# Altium footprint library Relay_THT.PcbLib: 78 footprints (part 5 of 5)
Each footprint in its own frame and in the unit in brackets; x right, y up, seen from the top. Pads: shape width x height; smd on the part's side, far side on the other; paste and mask are expansions set on the pad; w line width, h text height; cw(c..) or ccw(c..) is an arc to the next point about the centre after c.
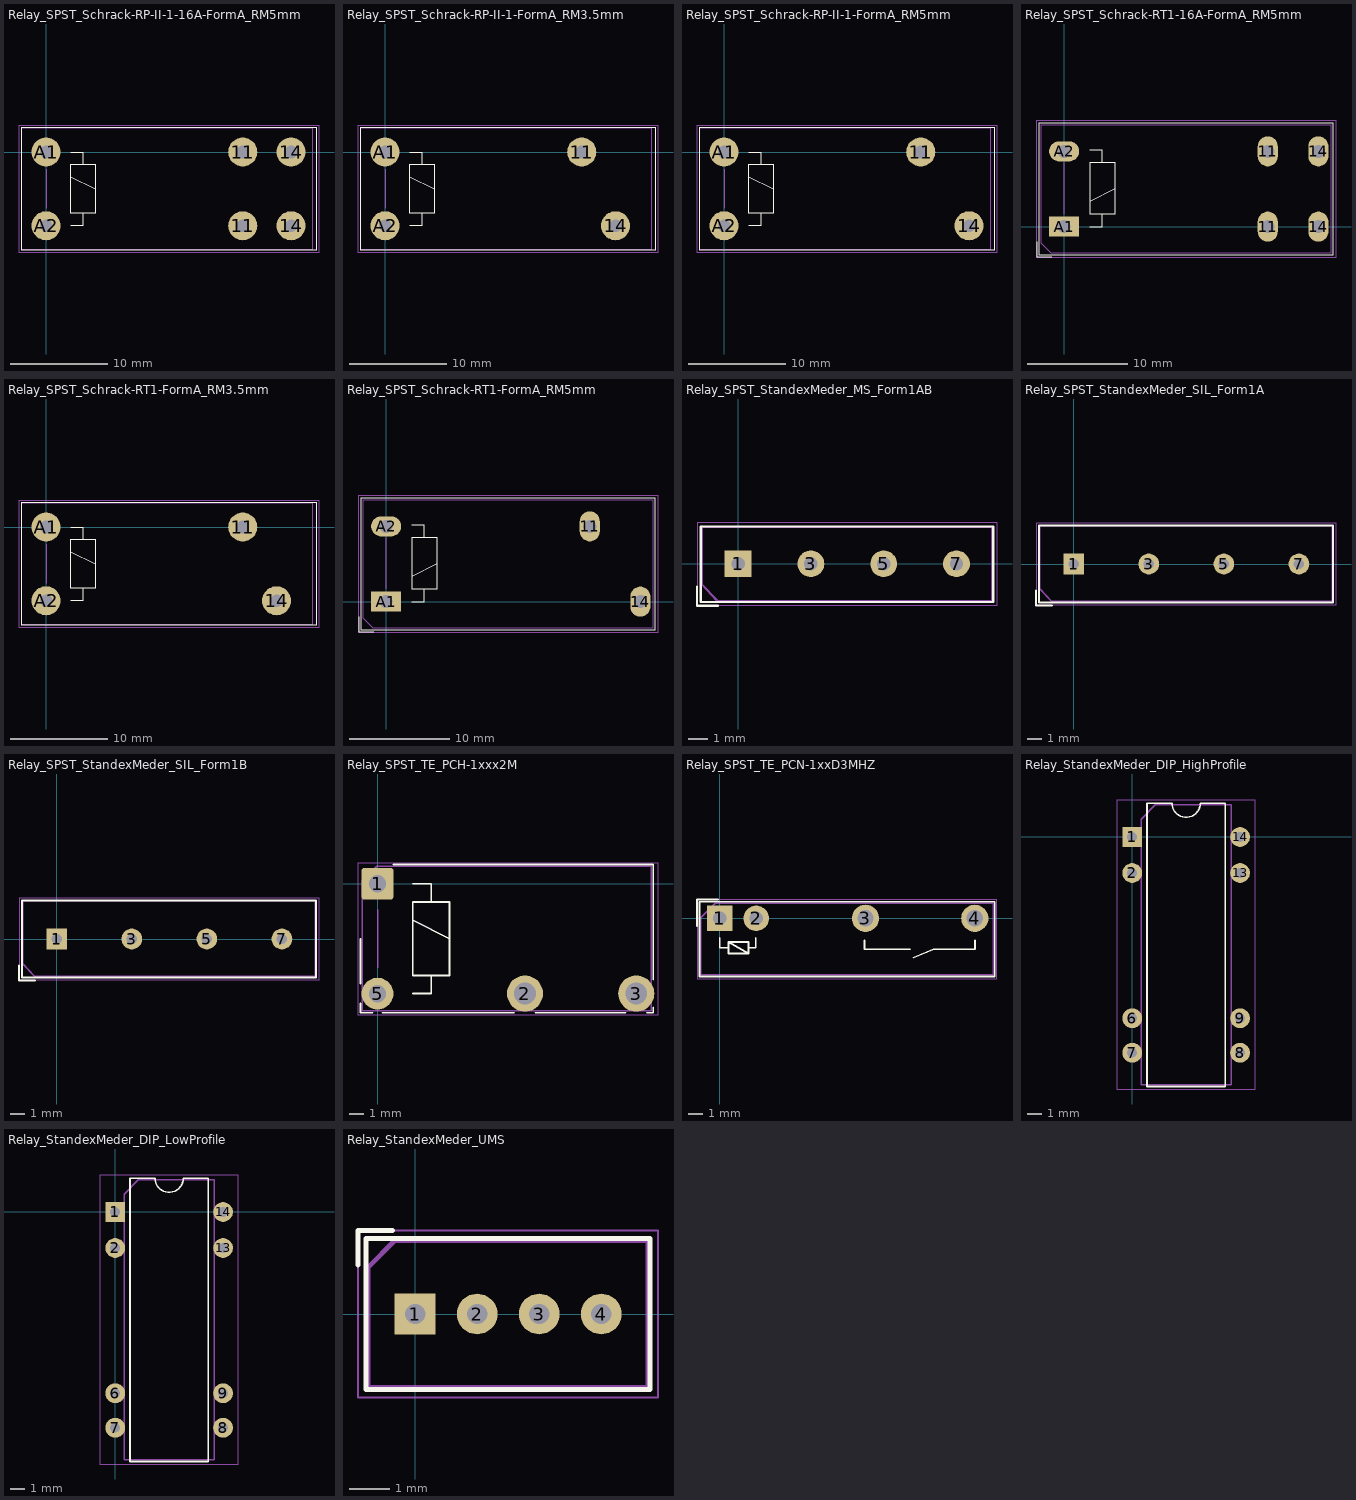
[diagram p4: the footprints below, top view; thin cyan lines are the x and y axes]

## Relay_SPST_Schrack-RP-II-1-16A-FormA_RM5mm [mm]
pads (6):
  round 3 hole 1.3: 11(20.32,-7.62) 11(20.32,0) 14(25.32,-7.62) 14(25.32,0) A1(0,0) A2(0,-7.62)
F.SilkS:
  lines w0.12: 2.54,-7.62 3.81,-7.62 3.81,-6.35 ; 2.54,-2.54 5.08,-3.81 ; 2.54,0 3.81,0 3.81,-1.27 ; 3.81,-1.27 5.08,-1.27 5.08,-6.35 2.54,-6.35 2.54,-1.27 3.81,-1.27 ; -2.54,-10.16 -2.54,2.54 27.94,2.54 27.94,-10.16 -2.54,-10.16
F.CrtYd:
  lines w0.05: -2.8,-10.42 28.2,-10.42 28.2,2.78 -2.8,2.78 -2.8,-10.42
F.Fab:
  lines w0.12: 0,-5.8 0,-1.8 ; -2.5,-10.1 -2.5,2.5 27.5,2.5 27.5,-10.1 -2.5,-10.1
  text "'.Designator'" at 8.018,-4.65 h1

## Relay_SPST_Schrack-RP-II-1-FormA_RM3.5mm [mm]
pads (4):
  round 3 hole 1.3: 11(20.32,0) 14(23.82,-7.62) A1(0,0) A2(0,-7.62)
F.SilkS:
  lines w0.12: 2.54,-7.62 3.81,-7.62 3.81,-6.35 ; 2.54,-2.54 5.08,-3.81 ; 2.54,0 3.81,0 3.81,-1.27 ; 3.81,-1.27 2.54,-1.27 2.54,-6.35 5.08,-6.35 5.08,-1.27 3.81,-1.27 ; -2.54,-10.16 27.94,-10.16 27.94,2.54 -2.54,2.54 -2.54,-10.16
F.CrtYd:
  lines w0.05: -2.8,-10.42 28.2,-10.42 28.2,2.78 -2.8,2.78 -2.8,-10.42
F.Fab:
  lines w0.12: 0,-5.8 0,-1.8 ; -2.5,-10.1 -2.5,2.5 27.5,2.5 27.5,-10.1 -2.5,-10.1
  text "'.Designator'" at 8.018,-4.65 h1

## Relay_SPST_Schrack-RP-II-1-FormA_RM5mm [mm]
pads (4):
  round 3 hole 1.3: 11(20.32,0) 14(25.32,-7.62) A1(0,0) A2(0,-7.62)
F.SilkS:
  lines w0.12: 2.54,-7.62 3.81,-7.62 3.81,-6.35 ; 2.54,-2.54 5.08,-3.81 ; 2.54,0 3.81,0 3.81,-1.27 ; 3.81,-1.27 2.54,-1.27 2.54,-6.35 5.08,-6.35 5.08,-1.27 3.81,-1.27 ; -2.54,-10.16 27.94,-10.16 27.94,2.54 -2.54,2.54 -2.54,-10.16
F.CrtYd:
  lines w0.05: -2.8,-10.42 28.2,-10.42 28.2,2.78 -2.8,2.78 -2.8,-10.42
F.Fab:
  lines w0.12: 0,-5.8 0,-1.8 ; -2.5,-10.1 -2.5,2.5 27.5,2.5 27.5,-10.1 -2.5,-10.1
  text "'.Designator'" at 8.018,-4.65 h1

## Relay_SPST_Schrack-RT1-16A-FormA_RM5mm [mm]
pads (6):
  rrect100% 2x3 hole 1.3: 11(20.3,0) 11(20.3,7.5) 14(25.34,0) 14(25.34,7.5)
  rect 3x2 hole 1.3: A1(0,0)
  rrect100% 3x2 hole 1.3: A2(0,7.5)
F.SilkS:
  lines w0.1: 2.54,2.54 5.08,3.81
  lines w0.12: -2.75,-1.5 -2.75,-3 -1.25,-3 ; 2.54,0 3.81,0 3.81,1.27 ; 2.54,7.62 3.81,7.62 3.81,6.35 ; 3.81,1.27 2.54,1.27 2.54,6.35 5.08,6.35 5.08,1.27 3.81,1.27 ; -2.55,-2.8 -2.55,10.3 26.85,10.3 26.85,-2.8 -2.55,-2.8
F.CrtYd:
  lines w0.05: -2.8,-3.05 27.1,-3.05 27.1,10.55 -2.8,10.55 -2.8,-3.05
F.Fab:
  lines w0.1: -2.35,-1.6 -2.35,10.1 26.65,10.1 26.65,-2.6 -1.35,-2.6 -2.35,-1.6
  lines w0.12: 0,1.27 0,6.35
  text "'.Designator'" at 8.018,2.97 h1

## Relay_SPST_Schrack-RT1-FormA_RM3.5mm [mm]
pads (4):
  round 3 hole 1.3: 11(20.32,0) 14(23.82,-7.62) A1(0,0) A2(0,-7.62)
F.SilkS:
  lines w0.12: 2.54,-7.62 3.81,-7.62 3.81,-6.35 ; 2.54,-2.54 5.08,-3.81 ; 2.54,0 3.81,0 3.81,-1.27 ; 3.81,-1.27 5.08,-1.27 5.08,-6.35 2.54,-6.35 2.54,-1.27 3.81,-1.27 ; -2.54,-10.16 27.94,-10.16 27.94,2.54 -2.54,2.54 -2.54,-10.16
F.CrtYd:
  lines w0.05: -2.8,-10.42 -2.8,2.78 28.2,2.78 28.2,-10.42 -2.8,-10.42
F.Fab:
  lines w0.12: 0,-5.8 0,-1.8 ; -2.5,-10.1 27.5,-10.1 27.5,2.5 -2.5,2.5 -2.5,-10.1
  text "'.Designator'" at 8.018,-4.65 h1

## Relay_SPST_Schrack-RT1-FormA_RM5mm [mm]
pads (4):
  rrect100% 2x3 hole 1.3: 11(20.3,7.5) 14(25.34,0)
  rect 3x2 hole 1.3: A1(0,0)
  rrect100% 3x2 hole 1.3: A2(0,7.5)
F.SilkS:
  lines w0.1: 2.54,2.54 5.08,3.81
  lines w0.12: -2.75,-1.5 -2.75,-3 -1.25,-3 ; 2.54,0 3.81,0 3.81,1.27 ; 2.54,7.62 3.81,7.62 3.81,6.35 ; 3.81,1.27 5.08,1.27 5.08,6.35 2.54,6.35 2.54,1.27 3.81,1.27 ; -2.55,-2.8 26.85,-2.8 26.85,10.3 -2.55,10.3 -2.55,-2.8
F.CrtYd:
  lines w0.05: -2.8,-3.05 -2.8,10.55 27.1,10.55 27.1,-3.05 -2.8,-3.05
F.Fab:
  lines w0.1: -2.35,-1.6 -1.35,-2.6 26.65,-2.6 26.65,10.1 -2.35,10.1 -2.35,-1.6
  lines w0.12: 0,1.27 0,6.35
  text "'.Designator'" at 8.018,2.97 h1

## Relay_SPST_StandexMeder_MS_Form1AB [mm]
pads (4):
  rect 1.4x1.4 hole 0.7: 1(0,0)
  round 1.4 hole 0.7: 3(3.81,0) 5(7.62,0) 7(11.43,0)
F.SilkS:
  lines w0.12: -2.15,-1.2 -2.15,-2.2 -1.05,-2.2 ; -1.95,-2 13.35,-2 13.35,1.95 -1.95,1.95 -1.95,-2
F.CrtYd:
  lines w0.05: -2.15,-2.2 13.55,-2.2 13.55,2.18 -2.15,2.18 -2.15,-2.2
F.Fab:
  lines w0.12: -1.9,1.9 -1.9,-1.067 -1.1,-1.917 13.3,-1.95 13.3,1.9 -1.9,1.933
  text "'.Designator'" at 1.653,-0.84 h1

## Relay_SPST_StandexMeder_SIL_Form1A [mm]
pads (4):
  rect 1.4x1.4 hole 0.7: 1(0,0)
  round 1.4 hole 0.7: 3(5.08,0) 5(10.16,0) 7(15.24,0)
F.SilkS:
  lines w0.12: -2.55,-1.8 -2.55,-2.8 -1.45,-2.8 ; -2.35,-2.6 17.55,-2.6 17.55,2.6 -2.35,2.6 -2.35,-2.6
F.CrtYd:
  lines w0.05: -2.55,-2.8 17.75,-2.8 17.75,2.8 -2.55,2.8 -2.55,-2.8
F.Fab:
  lines w0.12: -2.3,-1.667 -1.5,-2.517 17.5,-2.517 17.5,2.583 -2.3,2.583 -2.3,-1.667
  text "'.Designator'" at 3.703,-0.84 h1

## Relay_SPST_StandexMeder_SIL_Form1B [mm]
pads (4):
  rect 1.4x1.4 hole 0.7: 1(0,0)
  round 1.4 hole 0.7: 3(5.08,0) 5(10.16,0) 7(15.24,0)
F.SilkS:
  lines w0.12: -2.55,-1.8 -2.55,-2.8 -1.45,-2.8 ; -2.35,-2.6 -2.35,2.6 17.55,2.6 17.55,-2.6 -2.35,-2.6
F.CrtYd:
  lines w0.05: -2.55,-2.8 17.75,-2.8 17.75,2.8 -2.55,2.8 -2.55,-2.8
F.Fab:
  lines w0.12: -2.3,-1.667 -1.5,-2.517 17.5,-2.517 17.5,2.583 -2.3,2.583 -2.3,-1.667
  text "'.Designator'" at 3.703,-0.84 h1

## Relay_SPST_TE_PCH-1xxx2M [mm]
pads (4):
  rrect16% 2.2x2.2 hole 1.2: 1(0,0)
  round 2.5 hole 1.5: 2(10.2,-7.6) 3(17.9,-7.6)
  round 2.2 hole 1.2: 5(0,-7.6)
F.SilkS:
  lines w0.12: -1.17,-8.29 -1.17,-8.92 -0.33,-8.92 ; -1.17,-6.9 -1.17,-3.8 ; 0.33,-8.92 9.46,-8.92 ; 1.11,1.32 19.07,1.32 19.07,-6.64 ; 2.44,-7.6 3.71,-7.6 3.71,-6.35 ; 2.44,-2.54 4.98,-3.81 ; 2.44,0 3.71,0 3.71,-1.27 ; 10.93,-8.92 17.16,-8.92 ; 18.63,-8.92 19.07,-8.92 19.07,-8.55 ; 3.71,-1.27 2.44,-1.27 2.44,-6.35 4.98,-6.35 4.98,-1.27 3.71,-1.27
F.CrtYd:
  lines w0.05: -1.35,-9.1 -1.35,1.45 19.4,1.45 19.4,-9.1 -1.35,-9.1
F.Fab:
  lines w0.1: 0,-5.8 0,-1.8 ; -1.05,-8.8 -1.05,0.2 -0.05,1.2 18.95,1.2 18.95,-8.8 -1.05,-8.8
  text "'.Designator'" at 4.903,-4.64 h1

## Relay_SPST_TE_PCN-1xxD3MHZ [mm]
pads (4):
  rect 1.778x1.778 hole 0.95: 1(0,0)
  round 1.778 hole 0.95: 2(2.54,0)
  round 1.9 hole 1.15: 3(10.16,0) 4(17.78,0)
F.SilkS:
  lines w0.12: -1.59,-0.53 -1.59,1.32 -0.1,1.32 ; 0,-1.35 0,-2.05 0.6,-2.05 ; 2,-2.05 2.5,-2.05 2.5,-1.35 ; 10.09,-1.55 10.09,-2.15 13.29,-2.15 ; 13.49,-2.75 14.89,-2.15 17.79,-2.15 17.79,-1.55 ; 0.6,-2.05 0.6,-2.45 2,-2.45 ; 0.6,-2.05 0.6,-1.65 ; 0.6,-1.65 2,-2.45 ; 0.6,-1.65 2,-1.65 2,-2.45 ; -1.42,-4.05 -1.42,1.15 19.18,1.15 19.18,-4.05 -1.42,-4.05
F.CrtYd:
  lines w0.05: -1.57,-4.2 19.33,-4.2 19.33,1.3 -1.57,1.3 -1.57,-4.2
F.Fab:
  lines w0.1: -1.32,-3.95 -1.32,0.04 -0.32,1.05 19.08,1.05 19.08,-3.95 -1.32,-3.95
  text "'.Designator'" at 4.703,-2.37 h1
  text "1" at -0.669,-2.6 h1

## Relay_StandexMeder_DIP_HighProfile [mm]
pads (8):
  rect 1.4x1.4 hole 0.7: 1(0,0)
  round 1.4 hole 0.7: 2(0,-2.54) 6(0,-12.8) 7(0,-15.24) 8(7.62,-15.24) 9(7.62,-12.8) 13(7.62,-2.54) 14(7.62,0)
F.SilkS:
  lines w0.12: 1.04,-17.63 1.04,2.39 2.81,2.39 ccw(c3.81,2.39) 4.81,2.39 6.58,2.39 6.58,-17.63 1.04,-17.63
F.CrtYd:
  lines w0.05: -1.1,-17.8 8.7,-17.8 8.7,2.6 -1.1,2.6 -1.1,-17.8
F.Fab:
  lines w0.1: 0.64,-17.51 6.99,-17.51 6.99,2.27 1.64,2.27 0.64,1.27 0.64,-17.51
  text "'.Designator'" at -0.232,-8.46 h1

## Relay_StandexMeder_DIP_LowProfile [mm]
pads (8):
  rect 1.4x1.4 hole 0.7: 1(0,0)
  round 1.4 hole 0.7: 2(0,-2.54) 6(0,-12.8) 7(0,-15.24) 8(7.62,-15.24) 9(7.62,-12.8) 13(7.62,-2.54) 14(7.62,0)
F.SilkS:
  lines w0.12: 1.04,-17.63 6.58,-17.63 6.58,2.39 4.81,2.39 cw(c3.81,2.39) 2.81,2.39 1.04,2.39 1.04,-17.63
F.CrtYd:
  lines w0.05: -1.1,-17.8 -1.1,2.6 8.7,2.6 8.7,-17.8 -1.1,-17.8
F.Fab:
  lines w0.1: 0.64,-17.51 0.64,1.27 1.64,2.27 6.99,2.27 6.99,-17.51 0.64,-17.51
  text "'.Designator'" at -0.232,-8.46 h1

## Relay_StandexMeder_UMS [mm]
pads (4):
  rect 1x1 hole 0.5: 1(0,0)
  round 1 hole 0.5: 2(1.52,0) 3(3.04,0) 4(4.56,0)
F.SilkS:
  lines w0.12: -1.4,1.2 -1.4,2.05 -0.55,2.05 ; -1.2,-1.85 5.75,-1.85 5.75,1.85 -1.2,1.85 -1.2,-1.85
F.CrtYd:
  lines w0.05: -1.4,-2.05 -1.4,2.05 5.95,2.05 5.95,-2.05 -1.4,-2.05
F.Fab:
  lines w0.12: -1.15,-1.8 -1.15,1.15 -0.5,1.8 5.7,1.8 5.7,-1.8 -1.15,-1.8
  text "'.Designator'" at -1.847,-0.84 h1